# Altium schematic symbol library MS5803.SchLib: 2 symbols
Pins are listed as number, name and electrical type; pins without a type are passive.

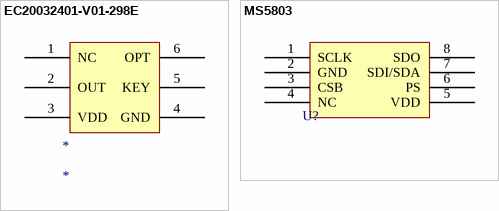
[diagram p0: symbols EC20032401-V01-298E to MS5803]

## EC20032401-V01-298E
designator *
pins: 1 NC, 2 OUT, 3 VDD, 4 GND, 5 KEY, 6 OPT

## MS5803
designator U?
pins: 1 SCLK, 2 GND, 3 CSB, 4 NC, 5 VDD, 6 PS, 7 SDI/SDA, 8 SDO